# EAGLE library part W7200-EVB (library _wiznet_2013-08-28)
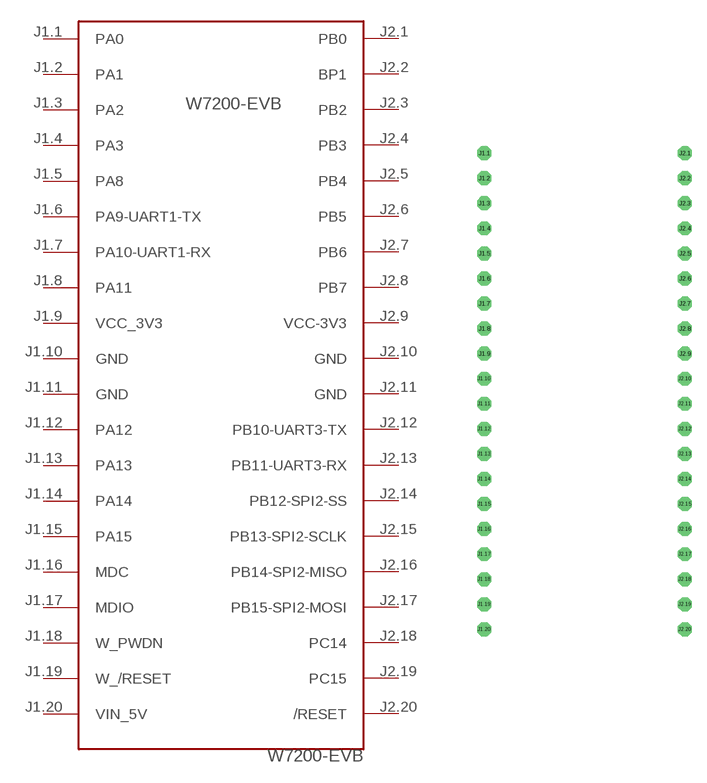
[diagram p2: symbol with the pads of W7200-EVB; footprint W7200-EVB]

Designator prefix -

## W7200-EVB  [W7200-EVB]
J1.1  PA0
J1.2  PA1
J1.3  PA2
J1.4  PA3
J1.5  PA8
J1.6  PA9-UART1-TX
J1.7  PA10-UART1-RX
J1.8  PA11
J1.9  VCC_3V3
J1.10  GND
J1.11  GND
J1.12  PA12
J1.13  PA13
J1.14  PA14
J1.15  PA15
J1.16  MDC
J1.17  MDIO
J1.18  W_PWDN
J1.19  W_/RESET
J1.20  VIN_5V
J2.1  PB0
J2.2  BP1
J2.3  PB2
J2.4  PB3
J2.5  PB4
J2.6  PB5
J2.7  PB6
J2.8  PB7
J2.9  VCC-3V3
J2.10  GND
J2.11  GND
J2.12  PB10-UART3-TX
J2.13  PB11-UART3-RX
J2.14  PB12-SPI2-SS
J2.15  PB13-SPI2-SCLK
J2.16  PB14-SPI2-MISO
J2.17  PB15-SPI2-MOSI
J2.18  PC14
J2.19  PC15
J2.20  /RESET

## Footprint W7200-EVB (pad centres in mm)
drill 0.9 octagon: J1.1 -10.16,25.4; J1.2 -10.16,22.86; J1.3 -10.16,20.32; J1.4 -10.16,17.78; J1.5 -10.16,15.24; J1.6 -10.16,12.7; J1.7 -10.16,10.16; J1.8 -10.16,7.62; J1.9 -10.16,5.08; J1.10 -10.16,2.54; J1.11 -10.16,0; J1.12 -10.16,-2.54; J1.13 -10.16,-5.08; J1.14 -10.16,-7.62; J1.15 -10.16,-10.16; J1.16 -10.16,-12.7; J1.17 -10.16,-15.24; J1.18 -10.16,-17.78; J1.19 -10.16,-20.32; J1.20 -10.16,-22.86; J2.1 10.16,25.4; J2.2 10.16,22.86; J2.3 10.16,20.32; J2.4 10.16,17.78; J2.5 10.16,15.24; J2.6 10.16,12.7; J2.7 10.16,10.16; J2.8 10.16,7.62; J2.9 10.16,5.08; J2.10 10.16,2.54; J2.11 10.16,0; J2.12 10.16,-2.54; J2.13 10.16,-5.08; J2.14 10.16,-7.62; J2.15 10.16,-10.16; J2.16 10.16,-12.7; J2.17 10.16,-15.24; J2.18 10.16,-17.78; J2.19 10.16,-20.32; J2.20 10.16,-22.86